# EAGLE library part UMH3N (library UMH3N)
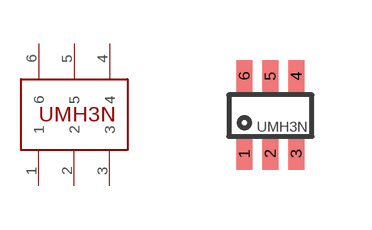
[diagram p0: symbol with the pads of UMH3N; footprint UMH3N]

Designator prefix -

## UMH3N  [UMH3N]
1  1
2  2
3  3
4  4
5  5
6  6

## Footprint UMH3N (pad centres in mm)
smd 0.4 x 0.8: 1 -0.65,-0.97; 2 0,-0.97; 3 0.65,-0.97; 4 0.65,0.97; 5 0,0.97; 6 -0.65,0.97